# EAGLE library part NMOS8 (library NMOS_DPAK)
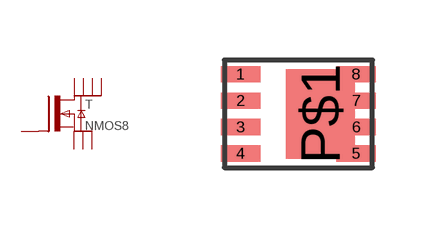
[diagram p0: symbol with the pads of POWER_PACK_1212; footprint POWER_PACK_1212]

Designator prefix T

## NMOS8_POWER_PACK_1212  [POWER_PACK_1212]
1  S  pas
2  S1  pas
3  S2  pas
4  G  in
5  D  pas
6  D1  pas
7  D2  pas
8  D3  pas
P$1  D  pas

## Footprint POWER_PACK_1212 (pad centres in mm)
smd 0.991 x 0.406: 1 -1.448,0.991; 2 -1.448,0.33; 3 -1.448,-0.33; 4 -1.448,-0.991; 5 1.448,-0.991; 6 1.448,-0.33; 7 1.448,0.33; 8 1.448,0.991
smd 1.727 x 2.235: P$1 0.546,0